# EAGLE library part STM32F407VGT6 (library INTech)
Carte HP ETH MCU avec microcontroleur STM32F407VGT6.
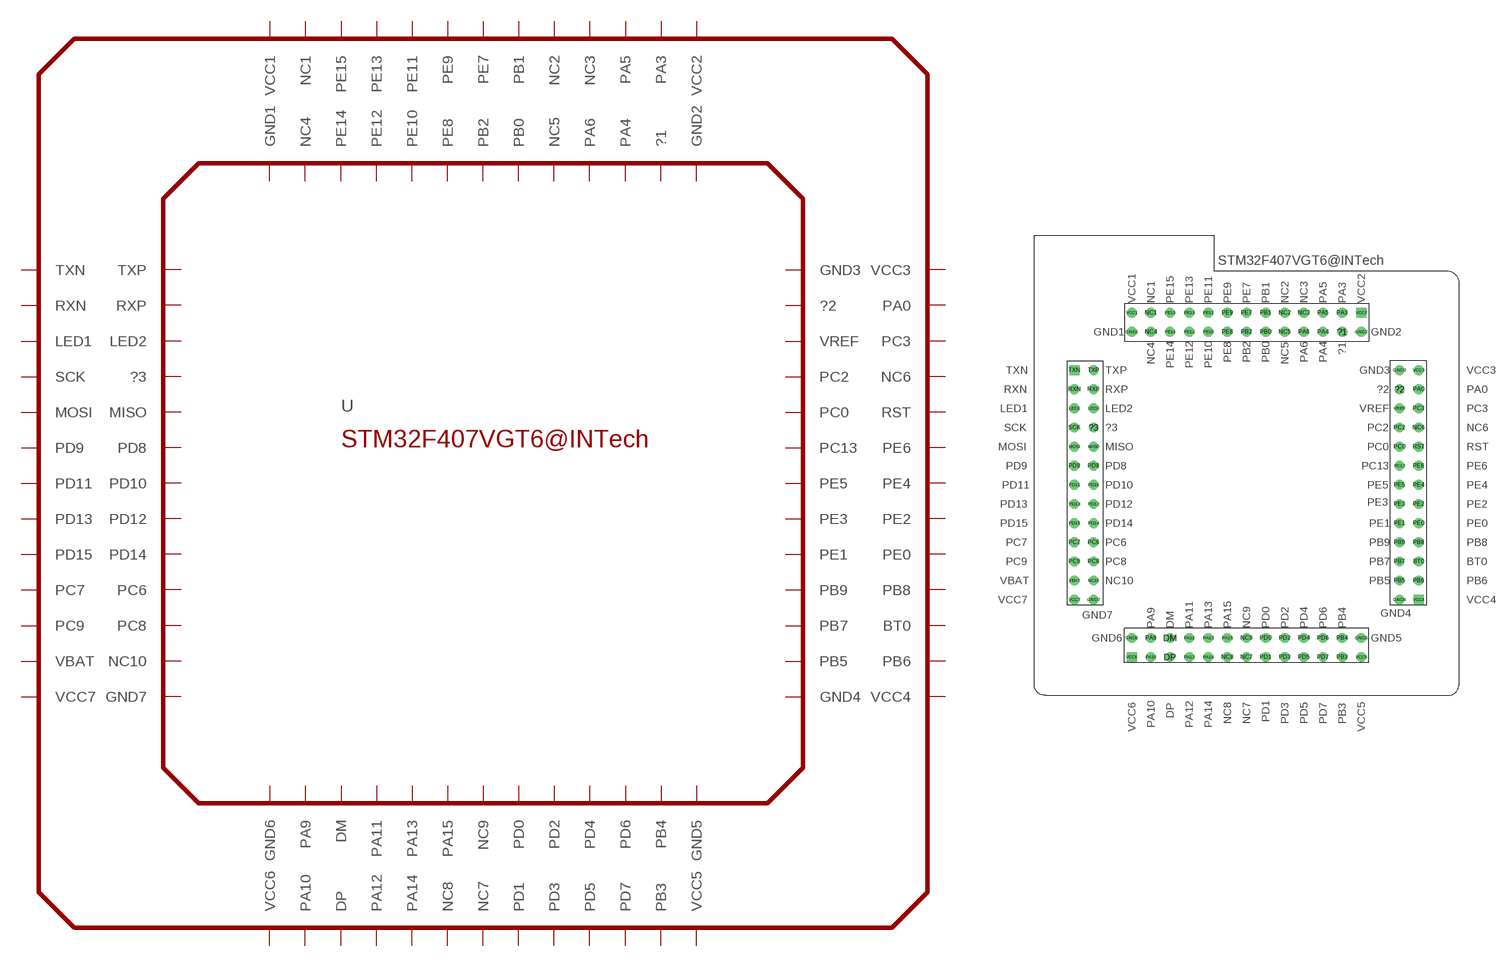
[diagram p2: symbol with the pads of STM32F407VGT6; footprint STM32F407VGT6]

Designator prefix -

## STM32F407VGT6  [STM32F407VGT6]
?1  ?1
?2  ?2
?3  ?3
BT0  BT0
DM  DM
DP  DP
GND1  GND1
GND2  GND2
GND3  GND3
GND4  GND4
GND5  GND5
GND6  GND6
GND7  GND7
LED1  LED1
LED2  LED2
MISO  MISO
MOSI  MOSI
NC1  NC1
NC2  NC2
NC3  NC3
NC4  NC4
NC5  NC5
NC6  NC6
NC7  NC7
NC8  NC8
NC9  NC9
NC10  NC10
PA0  PA0
PA3  PA3
PA4  PA4
PA5  PA5
PA6  PA6
PA9  PA9
PA10  PA10
PA11  PA11
PA12  PA12
PA13  PA13
PA14  PA14
PA15  PA15
PB0  PB0
PB1  PB1
PB2  PB2
PB3  PB3
PB4  PB4
PB5  PB5
PB6  PB6
PB7  PB7
PB8  PB8
PB9  PB9
PC0  PC0
PC2  PC2
PC3  PC3
PC6  PC6
PC7  PC7
PC8  PC8
PC9  PC9
PC13  PC13
PD0  PD0
PD1  PD1
PD2  PD2
PD3  PD3
PD4  PD4
PD5  PD5
PD6  PD6
PD7  PD7
PD8  PD8
PD9  PD9
PD10  PD10
PD11  PD11
PD12  PD12
PD13  PD13
PD14  PD14
PD15  PD15
PE0  PE0
PE1  PE1
PE2  PE2
PE3  PE3
PE4  PE4
PE5  PE5
PE6  PE6
PE7  PE7
PE8  PE8
PE9  PE9
PE10  PE10
PE11  PE11
PE12  PE12
PE13  PE13
PE14  PE14
PE15  PE15
RST  RST
RXN  RXN
RXP  RXP
SCK  SCK
TXN  TXN
TXP  TXP
VBAT  VBAT
VCC1  VCC1
VCC2  VCC2
VCC3  VCC3
VCC4  VCC4
VCC5  VCC5
VCC6  VCC6
VCC7  VCC7
VREF  VREF

## Footprint STM32F407VGT6 (pad centres in mm)
Carte HP ETH MCU avec microcontroleur STM32F407VGT6.
drill 0.8: ?1 12.7,20.32; ?2 20.32,12.7; ?3 -20.32,7.62; BT0 22.86,-10.16; DM -10.16,-20.32; DP -10.16,-22.86; GND1 -15.24,20.32; GND2 15.24,20.32; GND3 20.32,15.24; GND4 20.32,-15.24; GND5 15.24,-20.32; GND6 -15.24,-20.32; GND7 -20.32,-15.24; LED1 -22.86,10.16; LED2 -20.32,10.16; MISO -20.32,5.08; MOSI -22.86,5.08; NC1 -12.7,22.86; NC2 5.08,22.86; NC3 7.62,22.86; NC4 -12.7,20.32; NC5 5.08,20.32; NC6 22.86,7.62; NC7 0,-22.86; NC8 -2.54,-22.86; NC9 0,-20.32; NC10 -20.32,-12.7; PA0 22.86,12.7; PA3 12.7,22.86; PA4 10.16,20.32; PA5 10.16,22.86; PA6 7.62,20.32; PA9 -12.7,-20.32; PA10 -12.7,-22.86; PA11 -7.62,-20.32; PA12 -7.62,-22.86; PA13 -5.08,-20.32; PA14 -5.08,-22.86; PA15 -2.54,-20.32; PB0 2.54,20.32; PB1 2.54,22.86; PB2 0,20.32; PB3 12.7,-22.86; PB4 12.7,-20.32; PB5 20.32,-12.7; PB6 22.86,-12.7; PB7 20.32,-10.16; PB8 22.86,-7.62; PB9 20.32,-7.62; PC0 20.32,5.08; PC2 20.32,7.62; PC3 22.86,10.16; PC6 -20.32,-7.62; PC7 -22.86,-7.62; PC8 -20.32,-10.16; PC9 -22.86,-10.16; PC13 20.32,2.54; PD0 2.54,-20.32; PD1 2.54,-22.86; PD2 5.08,-20.32; PD3 5.08,-22.86; PD4 7.62,-20.32; PD5 7.62,-22.86; PD6 10.16,-20.32; PD7 10.16,-22.86; PD8 -20.32,2.54; PD9 -22.86,2.54; PD10 -20.32,0; PD11 -22.86,0; PD12 -20.32,-2.54; PD13 -22.86,-2.54; PD14 -20.32,-5.08; PD15 -22.86,-5.08; PE0 22.86,-5.08; PE1 20.32,-5.08; PE2 22.86,-2.54; PE3 20.32,-2.54; PE4 22.86,0; PE5 20.32,0; PE6 22.86,2.54; PE7 0,22.86; PE8 -2.54,20.32; PE9 -2.54,22.86; PE10 -5.08,20.32; PE11 -5.08,22.86; PE12 -7.62,20.32; PE13 -7.62,22.86; PE14 -10.16,20.32; PE15 -10.16,22.86; RST 22.86,5.08; RXN -22.86,12.7; RXP -20.32,12.7; SCK -22.86,7.62; TXP -20.32,15.24; VBAT -22.86,-12.7; VCC1 -15.24,22.86; VCC3 22.86,15.24; VCC5 15.24,-22.86; VCC7 -22.86,-15.24; VREF 20.32,10.16
drill 0.8 square: TXN -22.86,15.24; VCC2 15.24,22.86; VCC4 22.86,-15.24; VCC6 -15.24,-22.86